# Altium footprint library Passives.PcbLib: 35 footprints (part 1 of 3)
Each footprint in its own frame and in the unit in brackets; x right, y up, seen from the top. Pads: shape width x height; smd on the part's side, far side on the other; paste and mask are expansions set on the pad; w line width, h text height; cw(c..) or ccw(c..) is an arc to the next point about the centre after c.
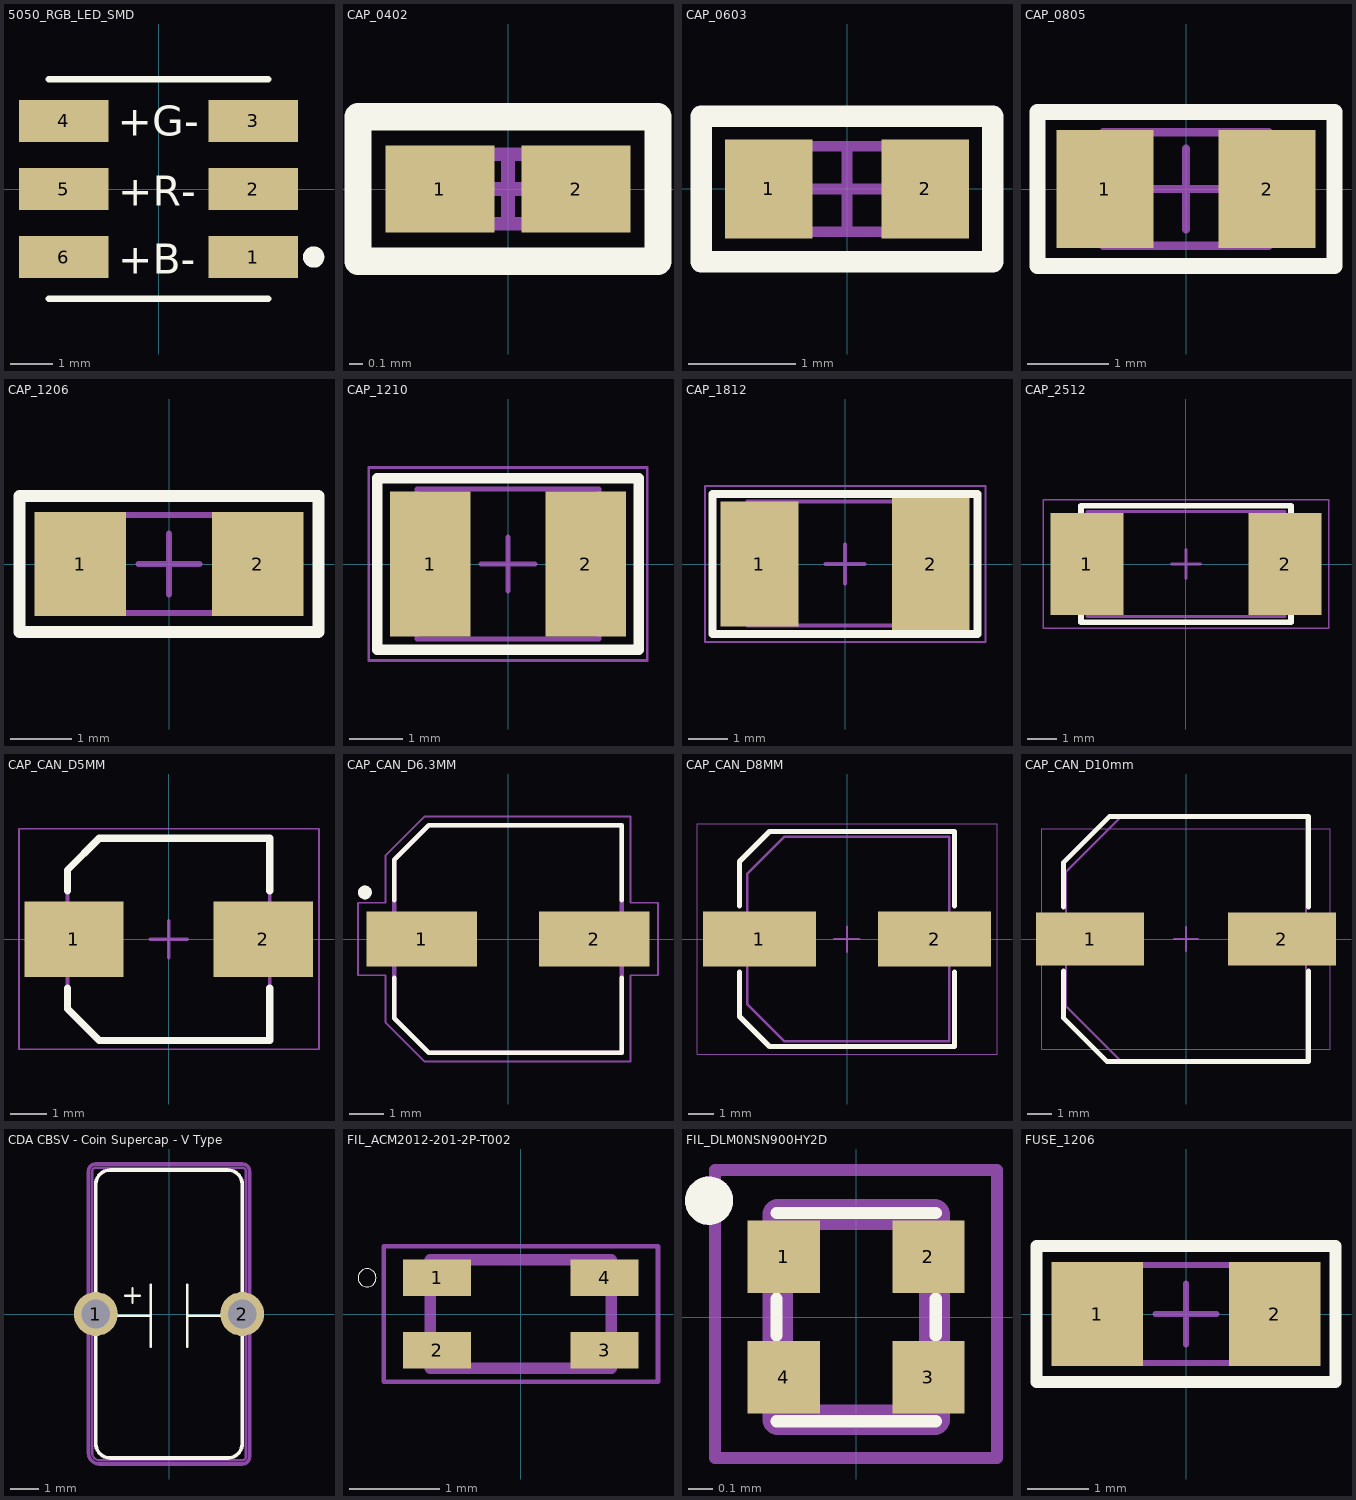
[diagram p0: the footprints below, top view; thin cyan lines are the x and y axes]

## 5050_RGB_LED_SMD [mm]
pads (6):
  rect 2.105x0.98 smd: 1(2.228,-1.6) 2(2.228,0) 3(2.228,1.6) 4(-2.228,1.6) 5(-2.228,0) 6(-2.228,-1.6)
Top Overlay:
  circle w0.25: c3.648,-1.6 r0.125
  lines w0.152: -2.576,-2.576 2.576,-2.576 ; -2.576,2.576 2.576,2.576
  text "+G-" at -0.962,1.25 h0.7
  text "+R-" at -0.952,-0.39 h0.7
  text "+B-" at -0.952,-1.99 h0.7
3D body: height 2, standoff 0.1, extent -2.592,-2.58 2.588,2.58

## CAP_0402 [mm] "Chip Capacitor, 2-Leads, Body 1,06x0,51mm, IPC Medium Density"
height 0.5
pads (2):
  rect 0.8x0.64 smd: 1(-0.5,0) 2(0.5,0)
Top Overlay:
  lines w0.2: -1.1,-0.53 -1.1,0.53 1.1,0.53 1.1,-0.53 -1.1,-0.53
Mechanical 13:
  lines w0.1: -0.55,-0.255 0.55,-0.255 0.55,0.255 -0.55,0.255 -0.55,-0.255
Mechanical 15:
  lines w0.05: -1.05,-0.5 1.05,-0.5 1.05,0.5 -1.05,0.5 -1.05,-0.5
  lines w0.1: -0.255,0 0.255,0 ; 0,-0.255 0,0.255
3D body: height 0.5, standoff 0, extent 0.3,-0.255 0.55,0.255
3D body: height 0.5, standoff 0, extent -0.55,-0.255 -0.3,0.255
3D body: height 0.5, standoff 0, extent -0.3,-0.255 0.3,0.255

## CAP_0603 [mm] "Chip Capacitor, 2-Leads, Body 1,57x0,78mm, IPC Medium Density"
height 0.7
pads (2):
  rect 0.82x0.92 smd: 1(-0.73,0) 2(0.73,0)
Top Overlay:
  lines w0.2: -1.36,-0.68 1.36,-0.68 1.36,0.68 -1.36,0.68 -1.36,-0.68
Mechanical 13:
  lines w0.1: -0.8,-0.4 0.8,-0.4 0.8,0.4 -0.8,0.4 -0.8,-0.4
Mechanical 15:
  lines w0.05: -1.4,-0.75 1.4,-0.75 1.4,0.75 -1.4,0.75 -1.4,-0.75
  lines w0.1: -0.4,0 0.4,0 ; 0,-0.4 0,0.4
3D body: height 0.7, standoff 0, extent 0.45,-0.4 0.8,0.4
3D body: height 0.7, standoff 0, extent -0.8,-0.4 -0.45,0.4
3D body: height 0.7, standoff 0, extent -0.45,-0.4 0.45,0.4

## CAP_0805 [mm] "Chip Capacitor, 2-Leads, Body 2,03x1,35mm, IPC Medium Density"
height 1.3
pads (2):
  rect 1.2x1.45 smd: 1(-1,0) 2(1,0)
Top Overlay:
  lines w0.2: -1.83,-0.95 1.83,-0.95 1.83,0.95 -1.83,0.95 -1.83,-0.95
Mechanical 13:
  lines w0.1: -1.02,-0.7 -1.02,0.7 1.02,0.7 1.02,-0.7 -1.02,-0.7
Mechanical 15:
  lines w0.05: -1.85,-1 -1.85,1 1.85,1 1.85,-1 -1.85,-1
  lines w0.1: -0.5,0 0.5,0 ; 0,-0.5 0,0.5
3D body: height 1.3, standoff 0, extent -0.47,-0.7 0.47,0.7
3D body: height 1.3, standoff 0, extent -1.02,-0.7 -0.47,0.7
3D body: height 1.3, standoff 0, extent 0.47,-0.7 1.02,0.7

## CAP_1206 [mm] "Chip Capacitor, 2-Leads, Body 3,05x1,56mm, IPC Medium Density"
height 0.8
pads (2):
  rect 1.5x1.7 smd: 1(-1.45,0) 2(1.45,0)
Top Overlay:
  lines w0.2: -2.44,-1.11 -2.44,1.11 2.44,1.11 2.44,-1.11 -2.44,-1.11
Mechanical 13:
  lines w0.1: -1.53,-0.8 1.53,-0.8 1.53,0.8 -1.53,0.8 -1.53,-0.8
Mechanical 15:
  lines w0.05: -2.45,-1.1 2.45,-1.1 2.45,1.1 -2.45,1.1 -2.45,-1.1
  lines w0.1: -0.5,0 0.5,0 ; 0,-0.5 0,0.5
3D body: height 0.8, standoff 0, extent 0.88,-0.8 1.53,0.8
3D body: height 0.8, standoff 0, extent -1.53,-0.8 -0.88,0.8
3D body: height 0.8, standoff 0, extent -0.88,-0.8 0.88,0.8

## CAP_1210 [mm] "Chip Capacitor, 2-Leads, Body 3,05x1,56mm, IPC Medium Density"
height 0.8
pads (2):
  rect 1.5x2.7 smd: 1(-1.45,0) 2(1.45,0)
Top Overlay:
  lines w0.2: -2.44,-1.6 -2.44,1.6 2.44,1.6 2.44,-1.6 -2.44,-1.6
Mechanical 13:
  lines w0.1: -1.7,-1.4 1.7,-1.4 1.7,1.4 -1.7,1.4 -1.7,-1.4
Mechanical 15:
  lines w0.05: -2.6,-1.8 2.6,-1.8 2.6,1.8 -2.6,1.8 -2.6,-1.8
  lines w0.1: -0.5,0 0.5,0 ; 0,-0.5 0,0.5
3D body: height 2.5, standoff 0, extent 0.88,-1.4 1.7,1.4
3D body: height 2.5, standoff 0, extent -1.7,-1.4 -0.88,1.4
3D body: height 2.48, standoff 0.02, extent -0.88,-1.38 0.88,1.38

## CAP_1812 [mm] "Chip Capacitor, 2-Leads, Body 3,05x1,56mm, IPC Medium Density"
height 0.8
pads (2):
  rect 2x3.2 smd: 1(-2.2,0)
  rect 2x3.4 smd: 2(2.2,0)
Top Overlay:
  lines w0.2: -3.4,-1.8 -3.4,1.8 3.4,1.8 3.4,-1.8 -3.4,-1.8
Mechanical 13:
  lines w0.1: -2.5,-1.58 2.5,-1.58 2.5,1.6 -2.5,1.6 -2.5,-1.58
Mechanical 15:
  lines w0.05: -3.6,-2 3.6,-2 3.6,2 -3.6,2 -3.6,-2
  lines w0.1: -0.5,0 0.5,0 ; 0,-0.5 0,0.5
3D body: height 3.2, standoff 0, extent 1.4,-1.7 2.525,1.7
3D body: height 3.2, standoff 0, extent -2.525,-1.6 -1.4,1.6
3D body: height 3.18, standoff 0.02, extent -1.4,-1.58 1.4,1.58

## CAP_2512 [mm] "Chip Capacitor, 2-Leads, Body 3,05x1,56mm, IPC Medium Density"
height 0.8
pads (2):
  rect 2.5x3.5 smd: 1(-3.4,0) 2(3.4,0)
Top Overlay:
  lines w0.2: -3.6,-2 3.6,-2 3.6,2 -3.6,2 -3.6,-2
Mechanical 13:
  lines w0.1: -3.4,-1.8 -3.4,1.8 3.4,1.8 3.4,-1.8 -3.4,-1.8
Mechanical 15:
  lines w0.05: -4.9,-2.2 4.9,-2.2 4.9,2.2 -4.9,2.2 -4.9,-2.2
  lines w0.1: -0.5,0 0.5,0 ; 0,-0.5 0,0.5
3D body: height 0.8, standoff 0, extent -2.5,-1.8 2.5,1.8
3D body: height 0.8, standoff 0, extent -3.4,-1.8 -2.5,1.8
3D body: height 0.8, standoff 0, extent 2.5,-1.8 3.4,1.8

## CAP_CAN_D5MM [mm] "Aluminum Electrolytic Capacitor, Body 5,40x5,40x5,50mm, IPC Low Density"
height 5.5
pads (2):
  rect 2.7x2.05 smd: 1(-2.575,0) 2(2.575,0)
Top Overlay:
  lines w0.2: -2.75,-1.325 -2.75,-1.888 -1.888,-2.75 2.75,-2.75 2.75,-1.325 ; -2.75,1.325 -2.75,1.887 -1.888,2.75 2.75,2.75 2.75,1.325
Mechanical 13:
  lines w0.1: -2.75,-1.888 -1.888,-2.75 2.75,-2.75 2.75,2.75 -1.888,2.75 -2.75,1.887 -2.75,-1.888
Mechanical 15:
  lines w0.05: -4.07,-2.99 -4.07,3.01 4.09,3.01 4.09,-2.99 -4.07,-2.99
  lines w0.1: -0.5,0 0.5,0 ; 0,-0.5 0,0.5
3D body: height 1.84, standoff 0, extent -2.75,-2.75 2.75,2.75
3D body: height 5.5, standoff 0, extent -2.5,-2.5 2.5,2.494

## CAP_CAN_D6.3MM [mm]
height 5.5
pads (2):
  rect 3.2x1.6 smd: 1(-2.5,0) 2(2.5,0)
Top Overlay:
  circle w0.2: c-4.15,1.35 r0.1
  lines w0.127: -3.3,-1.12 -3.3,-2.3 -2.3,-3.3 3.3,-3.3 3.3,-1.12 ; -3.3,1.12 -3.3,2.3 -2.3,3.3 3.3,3.3 3.3,1.12
Mechanical 13:
  circle w0.2: c-4.15,1.35 r0.1
  lines w0.127: -3.3,-2.3 -3.3,2.3 -2.3,3.3 3.3,3.3 3.3,-3.3 -2.3,-3.3 -3.3,-2.3
Mechanical 15:
  lines w0.05: -4.35,-1.05 -3.55,-1.05 -3.55,-2.425 -2.425,-3.55 3.55,-3.55 3.55,-1.05 4.35,-1.05 4.35,1.05 3.55,1.05 3.55,3.55 -2.425,3.55 -3.55,2.425 -3.55,1.05 -4.35,1.05 -4.35,-1.05
3D body "step_temp.STEP": height 7.7, standoff 0, extent -3.65,-3.3 3.65,3.3

## CAP_CAN_D8MM [mm]
height 5.5
pads (2):
  rect 4.5x2.2 smd: 1(-3.5,0) 2(3.5,0)
Top Overlay:
  lines w0.2: -4.3,-1.325 -4.3,-3.1 -3.1,-4.3 4.3,-4.3 4.3,-1.325 ; -4.3,1.325 -4.3,3.1 -3.1,4.3 4.3,4.3 4.3,1.325
Mechanical 13:
  lines w0.1: -4,-2.6 -4,2.6 -2.5,4.1 4.1,4.1 4.1,-4.1 -2.5,-4.1 -4,-2.6
Mechanical 15:
  lines w0.05: -6,-4.6 6,-4.6 6,4.6 -6,4.6 -6,-4.6
  lines w0.1: -0.5,0 0.5,0 ; 0,-0.5 0,0.5
3D body: height 10.4, standoff 0.2, extent -4,-4 4,3.994
3D body: height 1.84, standoff 0, extent -4.1,-4.1 4.1,4.1

## CAP_CAN_D10mm [mm] "Aluminum Electrolytic Capacitor, Body 5,40x5,40x5,50mm, IPC Low Density"
height 5.5
pads (2):
  rect 4.5x2.2 smd: 1(-4,0) 2(4,0)
Top Overlay:
  lines w0.2: -5.1,-1.325 -5.1,-3.3 -3.3,-5.1 5.1,-5.1 5.1,-1.325 ; -5.1,1.325 -5.1,3.2 -3.2,5.1 5.1,5.1 5.1,1.325
Mechanical 13:
  lines w0.1: -5,-2.8 -5,2.8 -2.7,5.1 5,5.1 5,-5.1 -2.7,-5.1 -5,-2.8
Mechanical 15:
  lines w0.05: -6,-4.6 6,-4.6 6,4.6 -6,4.6 -6,-4.6
  lines w0.1: -0.5,0 0.5,0 ; 0,-0.5 0,0.5
3D body: height 10.4, standoff 0.2, extent -5,-5.003 5,4.997
3D body: height 1.84, standoff 0, extent -5,-5 5,5

## CDA CBSV - Coin Supercap - V Type [mil]
pads (2):
  round 60 hole 39.37: 1(-100,0) 2(100,0)
Top Overlay:
  lines w3.15: -80,-2.5 -25,-2.5 ; -60,25 -40,25 ; -50,15 -50,35 ; -25,-45 -25,40 ; 25,40 25,-45 25,-2.5 80,-2.5
  lines w5: -100,-177.17 ccw(c-80.31,-177.17) -80.31,-196.85 80.31,-196.85 ccw(c80.31,-177.17) 100,-177.17 100,177.17 ccw(c80.31,177.17) 80.31,196.85 -80.31,196.85 ccw(c-80.31,177.17) -100,177.17 -100,0 -100,-177.17
Mechanical 13:
  lines w3.15: -105,-190 ccw(c-95,-190) -95,-200 100,-200 ccw(c100,-195) 105,-195 105,195 ccw(c100,195) 100,200 -100,200 ccw(c-100,195) -105,195 -105,-190
Mechanical 15:
  lines w5: -110,-190 ccw(c-95,-190) -95,-205 -75,-205 80,-205 100,-205 ccw(c100,-195) 110,-195 110,-185 110,175 110,195 ccw(c100,195) 100,205 85,205 -75,205 -100,205 ccw(c-100,195) -110,195 -110,180 -110,-175 -110,-190
3D body: height 196.85, standoff -118.11, extent -110,-12.5 -90,12.5
3D body: height 196.85, standoff -118.11, extent 90,-12.5 110,12.5
3D body: height 393.7, standoff 0, extent -96.85,-196.85 100,196.85

## FIL_ACM2012-201-2P-T002 [mm]
pads (4):
  rect 0.75x0.4 smd: 1(-0.925,0.4) 2(-0.925,-0.4) 3(0.925,-0.4) 4(0.925,0.4)
Top Overlay:
  circle w0: c-1.7,0.4 r0.1
Mechanical 13:
  circle w0: c-0.8,0.4 r0.1
  lines w0.127: -1,-0.6 -1,0.6 1,0.6 1,-0.6 -1,-0.6
Mechanical 15:
  lines w0.05: -1.516,-0.75 -1.516,0.75 1.516,0.75 1.516,-0.75 -1.516,-0.75

## FIL_DLM0NSN900HY2D [mm]
pads (4):
  rect 0.3x0.3 smd mask+0: 1(-0.3,0.25) 2(0.3,0.25) 3(0.3,-0.25) 4(-0.3,-0.25)
Top Overlay:
  circle w0.1: c-0.61,0.483 r0.05
  lines w0.051: -0.33,-0.432 0.33,-0.432 ; -0.33,-0.076 -0.33,0.076 ; -0.33,0.432 0.33,0.432 ; 0.33,-0.076 0.33,0.076
Top Solder:
  region: 0.45,-0.4 0.15,-0.4 0.15,-0.1 0.45,-0.1
  region: -0.15,-0.4 -0.45,-0.4 -0.45,-0.1 -0.15,-0.1
  region: 0.45,0.1 0.15,0.1 0.15,0.4 0.45,0.4
  region: -0.15,0.1 -0.45,0.1 -0.45,0.4 -0.15,0.4
Mechanical 13:
  circle w0.1: c-0.61,0.483 r0.05
  lines w0.127: -0.325,-0.425 0.325,-0.425 0.325,0.425 -0.325,0.425 -0.325,-0.425
Mechanical 15:
  lines w0.05: -0.584,-0.584 -0.584,0.61 0.584,0.61 0.584,-0.584 -0.584,-0.584

## FUSE_1206 [mm]
pads (2):
  rect 1.5x1.7 smd: 1(-1.45,0) 2(1.45,0)
Top Overlay:
  lines w0.2: -2.44,-1.11 -2.44,1.11 2.44,1.11 2.44,-1.11 -2.44,-1.11
Mechanical 13:
  lines w0.1: -1.53,-0.8 1.53,-0.8 1.53,0.8 -1.53,0.8 -1.53,-0.8
Mechanical 15:
  lines w0.05: -2.45,-1.1 2.45,-1.1 2.45,1.1 -2.45,1.1 -2.45,-1.1
  lines w0.1: -0.5,0 0.5,0 ; 0,-0.5 0,0.5
3D body: height 0.8, standoff 0, extent 0.88,-0.8 1.53,0.8
3D body: height 0.8, standoff 0, extent -1.53,-0.8 -0.88,0.8
3D body: height 0.8, standoff 0, extent -0.88,-0.8 0.88,0.8